# EAGLE library part SP0256-AL2 (library general-instrument)
General Instruments SP0256-AL2 vintage speech synthesizer IC
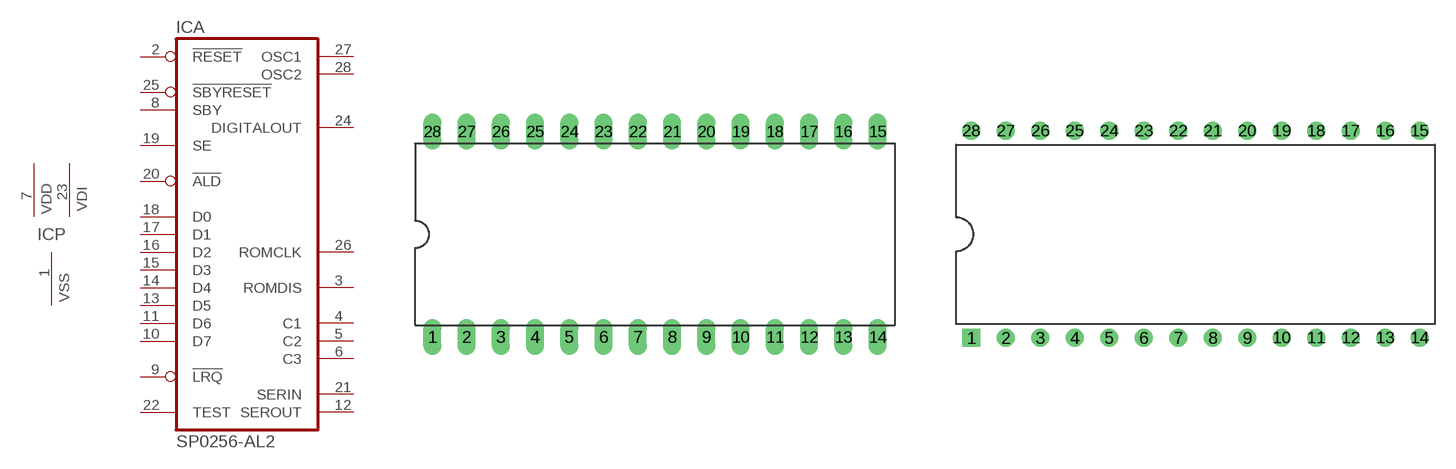
[diagram p4: symbol with the pads of DIL28-6; footprints DIL28-6, DIL28-6-RP]

Designator prefix IC; gates A=SP0256AL2 P=VDDVDI-GND

## SP0256-AL2  [DIL28-6]
1  P:VSS  pwr
2  A:!RESET  in
3  A:ROMDIS  in
4  A:C1  in
5  A:C2  in
6  A:C3
7  P:VDD  pwr
8  A:SBY  out
9  A:!LRQ  out
10  A:D7
11  A:D6  in
12  A:SEROUT  out
13  A:D5  in
14  A:D4  in
15  A:D3  in
16  A:D2  in
17  A:D1  in
18  A:D0  in
19  A:SE  in
20  A:!ALD  in
21  A:SERIN  in
22  A:TEST
23  P:VDI  pwr
24  A:DIGITALOUT  out
25  A:!SBYRESET  in
26  A:ROMCLK  out
27  A:OSC1
28  A:OSC2

## SP0256-AL2-RP  [DIL28-6-RP]
Pads as for DIL28-6

## Footprint DIL28-6 (pad centres in mm)
Dual In Line Package
drill 0.813 long: 1 -16.51,-7.62; 2 -13.97,-7.62; 3 -11.43,-7.62; 4 -8.89,-7.62; 5 -6.35,-7.62; 6 -3.81,-7.62; 7 -1.27,-7.62; 8 1.27,-7.62; 9 3.81,-7.62; 10 6.35,-7.62; 11 8.89,-7.62; 12 11.43,-7.62; 13 13.97,-7.62; 14 16.51,-7.62; 15 16.51,7.62; 16 13.97,7.62; 17 11.43,7.62; 18 8.89,7.62; 19 6.35,7.62; 20 3.81,7.62; 21 1.27,7.62; 22 -1.27,7.62; 23 -3.81,7.62; 24 -6.35,7.62; 25 -8.89,7.62; 26 -11.43,7.62; 27 -13.97,7.62; 28 -16.51,7.62

## Footprint DIL28-6-RP (pad centres in mm)
Dual In Line 0.6 inch
drill 0.813 square: 1 -16.51,-7.62
drill 0.813: 2 -13.97,-7.62; 3 -11.43,-7.62; 4 -8.89,-7.62; 5 -6.35,-7.62; 6 -3.81,-7.62; 7 -1.27,-7.62; 8 1.27,-7.62; 9 3.81,-7.62; 10 6.35,-7.62; 11 8.89,-7.62; 12 11.43,-7.62; 13 13.97,-7.62; 14 16.51,-7.62; 15 16.51,7.62; 16 13.97,7.62; 17 11.43,7.62; 18 8.89,7.62; 19 6.35,7.62; 20 3.81,7.62; 21 1.27,7.62; 22 -1.27,7.62; 23 -3.81,7.62; 24 -6.35,7.62; 25 -8.89,7.62; 26 -11.43,7.62; 27 -13.97,7.62; 28 -16.51,7.62